# Altium footprint library 32_pads.PcbLib: 1 footprints
Each footprint in its own frame and in the unit in brackets; x right, y up, seen from the top. Pads: shape width x height; smd on the part's side, far side on the other; paste and mask are expansions set on the pad; w line width, h text height; cw(c..) or ccw(c..) is an arc to the next point about the centre after c.
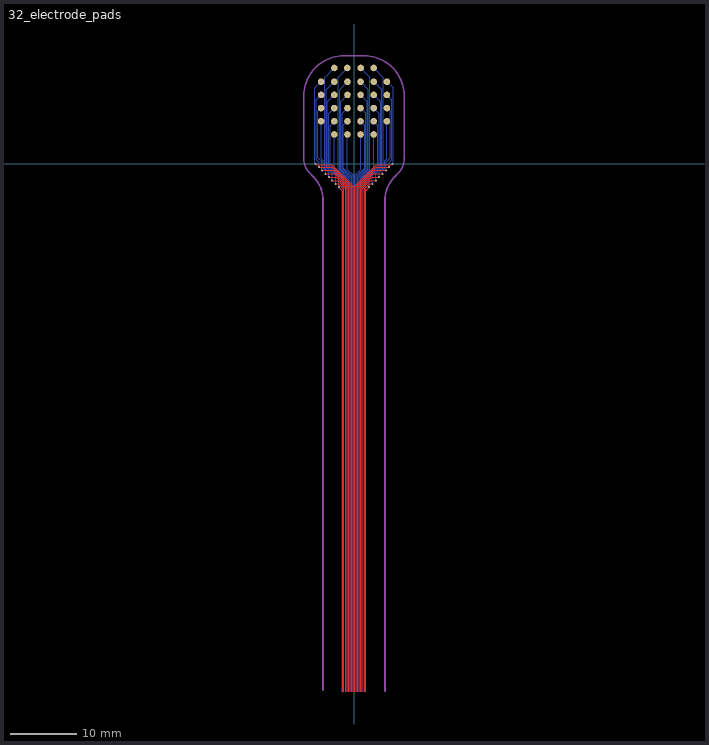
[diagram p0: the footprint, top view; thin cyan lines are the x and y axes]

## 32_electrode_pads [mm]
pads (32):
  round 1 smd: 1(-2.991,6.45) 2(-2.984,4.45) 3(-1.016,14.541) 4(-0.991,12.45) 5(-0.991,10.45) 6(-0.991,8.45) 7(-0.991,6.45) 8(-0.991,4.45) 9(0.991,4.45) 10(0.991,6.45) 11(0.991,8.45) 12(0.991,10.45) 13(0.991,12.45) 14(1.016,14.541) 15(2.984,4.45) 16(2.991,6.45) 17(-2.991,8.45) 18(-2.991,10.45) 19(-2.991,12.45) 20(-2.984,14.541) 21(-4.991,6.45) 22(-4.991,8.45) 23(-4.991,10.45) 24(-4.991,12.45) 25(4.991,12.45) 26(4.991,10.45) 27(4.991,8.45) 28(4.991,6.45) 29(2.984,14.541) 30(2.991,12.45) 31(2.991,10.45) 32(2.991,8.45)
via -4.991,12.45 diameter 0.35 hole 0.15
via -2.984,4.45 diameter 0.35 hole 0.15
via -2.984,14.541 diameter 0.35 hole 0.15
via -2.991,6.45 diameter 0.35 hole 0.15
via -2.991,8.45 diameter 0.35 hole 0.15
via -2.991,10.45 diameter 0.35 hole 0.15
via -0.991,4.45 diameter 0.35 hole 0.15
via -1.016,14.541 diameter 0.35 hole 0.15
via -0.991,6.45 diameter 0.35 hole 0.15
via -0.991,8.45 diameter 0.35 hole 0.15
via -0.991,10.45 diameter 0.35 hole 0.15
via -2.991,12.45 diameter 0.35 hole 0.15
via -0.991,12.45 diameter 0.35 hole 0.15
via -4.991,6.45 diameter 0.35 hole 0.15
via -4.991,8.45 diameter 0.35 hole 0.15
via -4.991,10.45 diameter 0.35 hole 0.15
via 4.991,12.45 diameter 0.35 hole 0.15
via 2.984,4.45 diameter 0.35 hole 0.15
via 2.984,14.541 diameter 0.35 hole 0.15
via 2.991,6.45 diameter 0.35 hole 0.15
via 2.991,8.45 diameter 0.35 hole 0.15
via 2.991,10.45 diameter 0.35 hole 0.15
via 0.991,4.45 diameter 0.35 hole 0.15
via 1.016,14.541 diameter 0.35 hole 0.15
via 0.991,6.45 diameter 0.35 hole 0.15
via 0.991,8.45 diameter 0.35 hole 0.15
via 0.991,10.45 diameter 0.35 hole 0.15
via 2.991,12.45 diameter 0.35 hole 0.15
via 0.991,12.45 diameter 0.35 hole 0.15
via 4.991,6.45 diameter 0.35 hole 0.15
via 4.991,8.45 diameter 0.35 hole 0.15
via 4.991,10.45 diameter 0.35 hole 0.15
via -5.334,-0.508 diameter 0.3 hole 0.15
via -4.826,-1.016 diameter 0.3 hole 0.15
via -4.318,-1.524 diameter 0.3 hole 0.15
via 2.286,-3.556 diameter 0.3 hole 0.15
via 2.794,-3.048 diameter 0.3 hole 0.15
via 3.303,-2.541 diameter 0.3 hole 0.15
via 3.81,-2.032 diameter 0.3 hole 0.15
via 4.318,-1.524 diameter 0.3 hole 0.15
via 4.826,-1.016 diameter 0.3 hole 0.15
via 5.334,-0.508 diameter 0.3 hole 0.15
via 5.842,0 diameter 0.3 hole 0.15
via -5.842,0 diameter 0.3 hole 0.15
via -3.81,-2.032 diameter 0.3 hole 0.15
via -3.303,-2.541 diameter 0.3 hole 0.15
via -2.794,-3.048 diameter 0.3 hole 0.15
via -2.286,-3.556 diameter 0.3 hole 0.15
Top Layer:
  lines w0.1: -5.842,0 -5.677,-0.165 -3.391,-0.165 -0.127,-3.429 -0.127,-80.082 ; -5.334,-0.508 -5.324,-0.518 -3.321,-0.518 -0.344,-3.495 -0.344,-80.082 ; -4.826,-1.016 -3.117,-1.016 -0.544,-3.59 -0.544,-80.082 ; -4.318,-1.524 -2.892,-1.524 -0.762,-3.654 -0.762,-80.082 ; -3.81,-2.032 -2.667,-2.032 -1.016,-3.683 -1.016,-80.082 ; -3.303,-2.541 -3.267,-2.578 -2.502,-2.578 -1.27,-3.81 -1.27,-80.082 ; -2.794,-3.048 -2.37,-3.048 -1.524,-3.894 -1.524,-80.082 ; -2.286,-3.556 -1.778,-4.064 -1.778,-80.137 ; 0.127,-80.082 0.127,-3.429 3.391,-0.165 5.677,-0.165 5.842,0 ; 0.344,-80.082 0.344,-3.495 3.321,-0.518 5.324,-0.518 5.334,-0.508 ; 0.544,-80.082 0.544,-3.59 3.117,-1.016 4.826,-1.016 ; 0.762,-80.082 0.762,-3.654 2.892,-1.524 4.318,-1.524 ; 1.016,-80.082 1.016,-3.683 2.667,-2.032 3.81,-2.032 ; 1.27,-80.137 1.27,-3.81 2.502,-2.578 3.267,-2.578 3.303,-2.541 ; 1.524,-80.082 1.524,-3.894 2.37,-3.048 2.794,-3.048 ; 1.778,-80.082 1.778,-4.064 2.286,-3.556
Bottom Layer:
  lines w0.1: -5.842,0 -5.842,0.054 -5.921,0.133 -5.921,11.52 -4.991,12.45 ; -5.334,-0.508 -5.334,0.254 -5.721,0.641 -5.721,9.72 -4.991,10.45 ; -4.991,6.45 -4.991,0.8 -4.683,0.492 -4.683,-0.678 -4.318,-1.043 -4.318,-1.524 ; -4.991,8.45 -5.504,7.937 -5.504,0.932 -4.883,0.311 -4.883,-0.761 -4.864,-0.779 -4.864,-0.978 -4.826,-1.016 ; -3.81,-2.032 -3.81,-1.268 -4.433,-0.645 -4.433,13.092 -2.984,14.541 ; -3.303,-2.541 -3.302,-2.54 -3.302,-1.493 -4.233,-0.562 -4.233,11.208 -2.991,12.45 ; -2.991,6.45 -3.633,5.808 -3.633,-0.314 -1.778,-2.169 -1.778,-80.169 ; -2.991,8.45 -3.833,7.608 -3.833,-0.396 -2.286,-1.943 -2.286,-3.556 ; -2.991,10.45 -4.033,9.408 -4.033,-0.479 -2.794,-1.718 -2.794,-3.04 ; -2.984,4.45 -2.984,-0.68 -1.524,-2.14 -1.524,-80.082 ; -1.27,-80.082 -1.27,-2.111 -2.394,-0.987 -2.394,13.163 -1.435,14.122 ; -1.016,-80.082 -1.016,-2.082 -2.194,-0.904 -2.194,11.247 -0.991,12.45 ; -1.016,14.541 -1.435,14.122 ; -0.991,4.45 -0.991,-0.914 -0.147,-1.758 -0.147,-80.082 ; -0.991,6.45 -1.594,5.847 -1.594,-0.655 -0.347,-1.903 -0.347,-80.082 ; -0.991,8.45 -1.794,7.647 -1.794,-0.738 -0.547,-1.986 -0.547,-80.082 ; -0.991,10.45 -1.994,9.447 -1.994,-0.821 -0.762,-2.053 -0.762,-80.01 ; 0.147,-80.082 0.147,-1.758 0.991,-0.914 0.991,4.45 ; 0.347,-80.082 0.347,-1.903 1.594,-0.655 1.594,5.847 0.991,6.45 ; 0.547,-80.082 0.547,-1.986 1.794,-0.738 1.794,7.647 0.991,8.45 ; 0.762,-80.01 0.762,-2.053 1.994,-0.821 1.994,9.447 0.991,10.45 ; 0.991,12.45 2.194,11.247 2.194,-0.904 1.016,-2.082 1.016,-80.082 ; 1.016,14.541 1.435,14.122 ; 1.27,-80.082 1.27,-2.111 2.394,-0.987 2.394,13.163 1.435,14.122 ; 1.524,-80.082 1.524,-2.14 2.984,-0.68 2.984,4.45 ; 1.778,-80.082 1.778,-2.169 3.633,-0.314 3.633,5.808 2.991,6.45 ; 2.286,-3.556 2.286,-1.943 3.833,-0.396 3.833,7.608 2.991,8.45 ; 2.794,-3.04 2.794,-1.718 4.033,-0.479 4.033,9.408 2.991,10.45 ; 2.984,14.541 4.433,13.092 4.433,-0.645 3.81,-1.268 3.81,-2.032 ; 2.991,12.45 4.233,11.208 4.233,-0.562 3.302,-1.493 3.302,-2.54 3.303,-2.541 ; 4.318,-1.524 4.318,-1.043 4.683,-0.678 4.683,0.492 4.991,0.8 4.991,6.45 ; 4.826,-1.016 4.864,-0.978 4.864,-0.779 4.883,-0.761 4.883,0.311 5.504,0.932 5.504,7.937 4.991,8.45 ; 4.991,10.45 5.721,9.72 5.721,0.641 5.334,0.254 5.334,-0.508 ; 4.991,12.45 5.921,11.52 5.921,0.133 5.842,0.054 5.842,0 ; -1.435,14.122 -1.435,14.122 ; 1.435,14.122 1.435,14.122
Mechanical 1:
  lines w0.254: -4.691,-79.842 -4.691,-5.547 ccw(c-9.785,-5.547) -6.183,-1.945 -6.722,-1.406 cw(c-4.554,0.762) -7.62,0.762 -7.62,1.524 -7.62,1.713 -7.62,10.319 cw(c-1.556,10.319) -1.556,16.383 -0.254,16.383 0.254,16.383 1.556,16.383 cw(c1.556,10.319) 7.62,10.319 7.62,1.713 ; 4.691,-79.991 4.691,-75.544 4.691,-5.547 cw(c9.785,-5.547) 6.183,-1.945 6.722,-1.406 ccw(c4.554,0.762) 7.62,0.762 7.62,1.524